# Altium footprint library SolderBridge.PcbLib: 1 footprints
Each footprint in its own frame and in the unit in brackets; x right, y up, seen from the top. Pads: shape width x height; smd on the part's side, far side on the other; paste and mask are expansions set on the pad; w line width, h text height; cw(c..) or ccw(c..) is an arc to the next point about the centre after c.
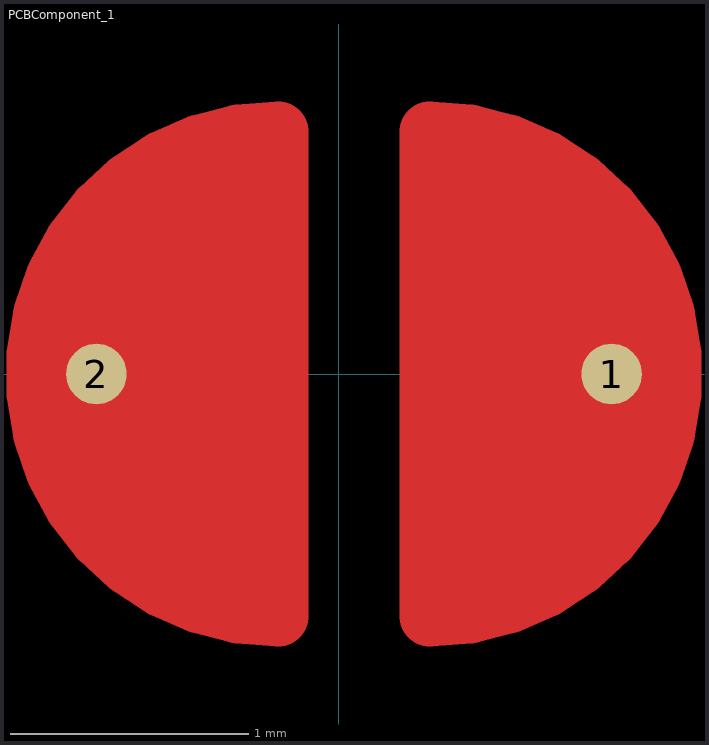
[diagram p0: the footprint, top view; thin cyan lines are the x and y axes]

## PCBComponent_1 [mil]
pads (2):
  round 10 smd mask+0: 1(45,0) 2(-40,0)
Top Layer:
  region: -10,-40 -25,-40 -45,-20 -45,-10 -50,-5 -50,15 -30,35 -25,35 -20,40 -10,40
  region: 15,40 30,40 50,20 50,10 55,5 55,-15 35,-35 30,-35 25,-40 15,-40
  lines w10: -10,-40 cw(c-10,0) -10,40 -10,-40 ; 15,-40 ccw(c15,0) 15,40 15,-40
Top Solder:
  circle w60: c-10,0 r17
  circle w60: c15,0 r17
  lines w14: -10,-40 15,-40 ; -10,40 15,40